# Altium footprint library MBRS540T3G.PcbLib: 1 footprints
Each footprint in its own frame and in the unit in brackets; x right, y up, seen from the top. Pads: shape width x height; smd on the part's side, far side on the other; paste and mask are expansions set on the pad; w line width, h text height; cw(c..) or ccw(c..) is an arc to the next point about the centre after c.
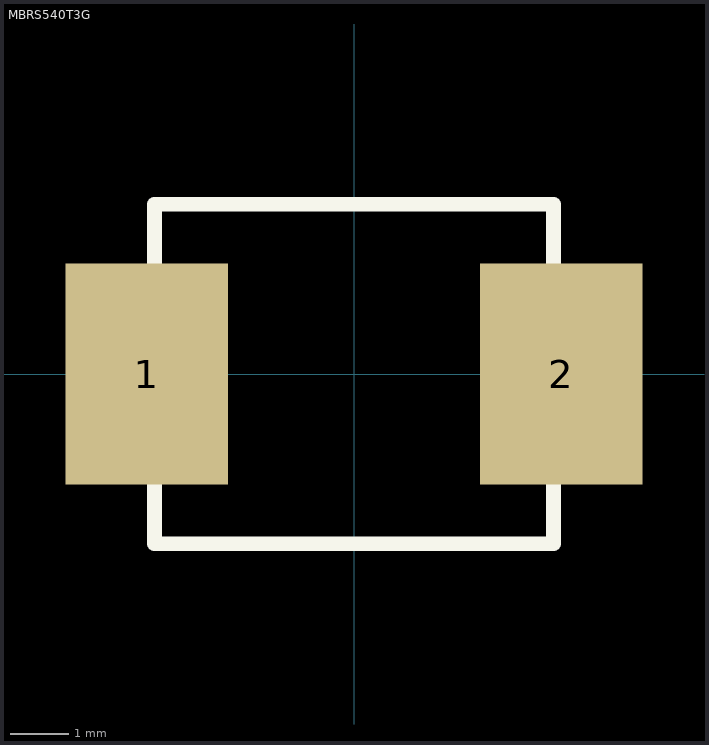
[diagram p0: the footprint, top view; thin cyan lines are the x and y axes]

## MBRS540T3G [mil]
height 94.88
pads (2):
  rect 110x150 smd: 1(-140.49,0) 2(140.47,0)
Top Overlay:
  lines w10: -135.04,-114.96 -135.04,114.96 135.04,114.96 135.04,-114.96 -135.04,-114.96
3D body "DO-214AB SMC.STEP": height 89.86, standoff -0.79, extent -156.49,-116.14 156.5,116.15